# Altium footprint library LightSensor.PcbLib: 1 footprints
Each footprint in its own frame and in the unit in brackets; x right, y up, seen from the top. Pads: shape width x height; smd on the part's side, far side on the other; paste and mask are expansions set on the pad; w line width, h text height; cw(c..) or ccw(c..) is an arc to the next point about the centre after c.
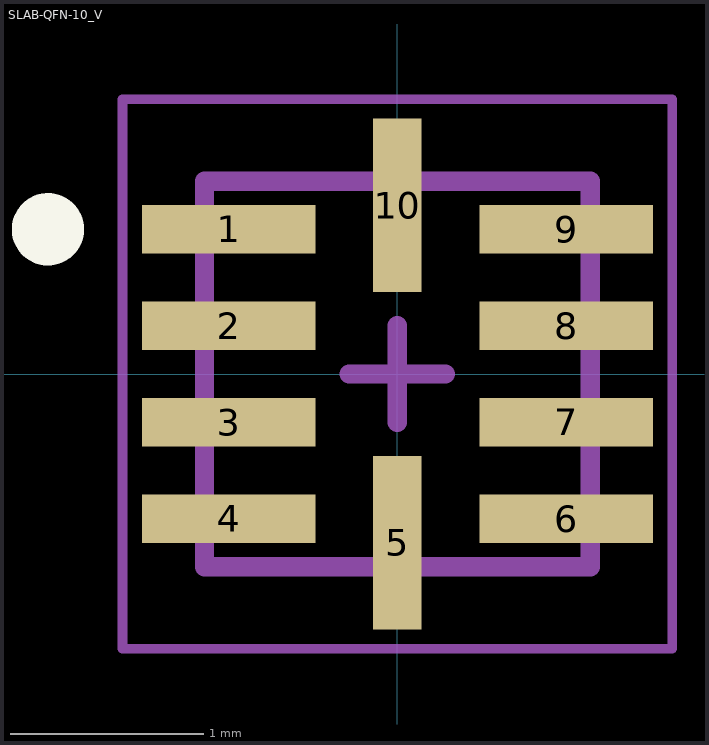
[diagram p0: the footprint, top view; thin cyan lines are the x and y axes]

## SLAB-QFN-10_V [mm] "QFN, 10-Leads, Body 2x2mm, Pitch 0.5mm"
height 0.8
pads (10):
  rect 0.9x0.25 smd: 1(-0.875,0.75) 2(-0.875,0.25) 3(-0.875,-0.25) 4(-0.875,-0.75) 6(0.875,-0.75) 7(0.875,-0.25) 8(0.875,0.25) 9(0.875,0.75)
  rect 0.25x0.9 smd: 5(0,-0.875) 10(0,0.875)
Top Overlay:
  circle w0.25: c-1.812,0.75 r0.062
Mechanical 13:
  lines w0.1: -1,-1 1,-1 1,1 -1,1 -1,-1
Mechanical 15:
  lines w0.05: -1.425,-1.425 1.425,-1.425 1.425,1.425 -1.425,1.425 -1.425,-1.425
  lines w0.1: -0.25,0 0.25,0 ; 0,-0.25 0,0.25
3D body: height 0.8, standoff 0, extent -1,-1 1,1